# Altium schematic symbol library SparkFun-Boards.SCHLIB: 38 symbols
Pins are listed as number, name and electrical type; pins without a type are passive.

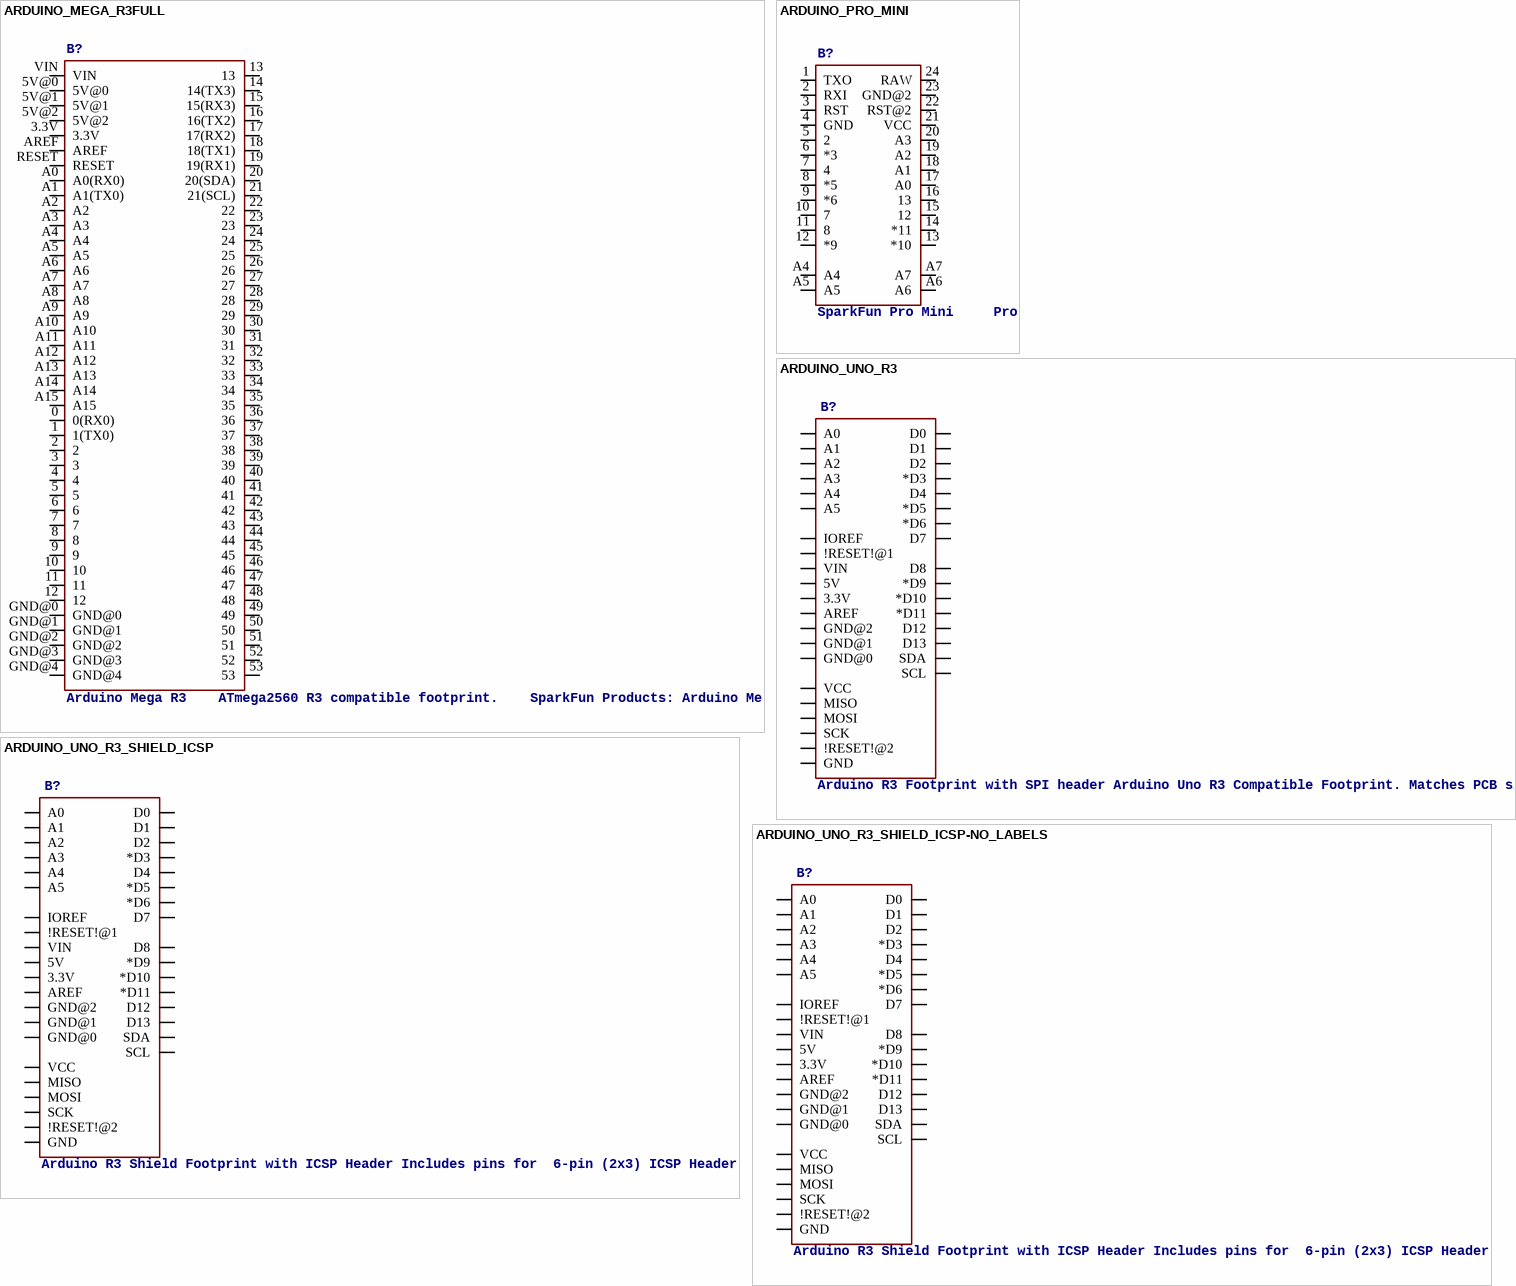
[diagram p0: symbols ARDUINO_MEGA_R3FULL to ARDUINO_UNO_R3_SHIELD_ICSP-NO_LABELS]

## ARDUINO_MEGA_R3FULL
designator B?, comment Arduino Mega R3    ATmega2560 R3 compatible footprint.    SparkFun Products: Arduino Mega 2560 R3
footprint ARDUINO_MEGA
pins: 0 0(RX0), 1 1(TX0), 2, 3, 3.3V, 4, 5, 5V@0, 5V@1, 5V@2, 6, 7, 8, 9, 10, 11, 12, 13, 14 14(TX3), 15 15(RX3), 16 16(TX2), 17 17(RX2), 18 18(TX1), 19 19(RX1), 20 20(SDA), 21 21(SCL), 22, 23, 24, 25, 26, 27, 28, 29, 30, 31, 32, 33, 34, 35, 36, 37, 38, 39, 40, 41, 42, 43, 44, 45, 46, 47, 48, 49, 50, 51, 52, 53, A0 A0(RX0), A1 A1(TX0), A2, A3, A4, A5, A6, A7, A8, A9, A10, A11, A12, A13, A14, A15, AREF, GND@0, GND@1, GND@2, GND@3, GND@4, RESET, VIN

## ARDUINO_PRO_MINI
designator B?, comment SparkFun Pro Mini     Pro Mini compatible footprint.    Dimensions: 0.7 x 1.3"  PCB Thickness: 0.8mm    SparkFun Products: 3.3V/8MHz  5V/16MHz
footprint ARDUINO_PRO_MINI
pins: 1 TXO, 2 RXI, 3 RST, 4 GND (power), 5 2, 6 *3, 7 4, 8 *5, 9 *6, 10 7, 11 8, 12 *9, 13 *10, 14 *11, 15 12, 16 13, 17 A0, 18 A1, 19 A2, 20 A3, 21 VCC (power), 22 RST@2, 23 GND@2 (power), 24 RAW (power), A4, A5, A6, A7

## ARDUINO_UNO_R3
designator B?, comment Arduino R3 Footprint with SPI header Arduino Uno R3 Compatible Footprint. Matches PCB size of the original board.    SparkFun Products:  SAMD21 Dev Breakout  RedBoard   R3 Stackable Headers
footprint ARDUINO_R3
pins: 3.3V, 5V, A0, A1, A2, A3, A4, A5, AREF, D0, D1, D2, D3 *D3, D4, D5 *D5, D6 *D6, D7, D8, D9 *D9, D10 *D10, D11 *D11, D12, D13, GND@1 GND, GND@2 GND@0, GND@3 GND@1, GND@4 GND@2, IOREF, MISO, MOSI, RESET@1 !RESET!@1, RESET@2 !RESET!@2, SCK, SCL, SDA, VCC, VIN

## ARDUINO_UNO_R3_SHIELD_ICSP
designator B?, comment Arduino R3 Shield Footprint with ICSP Header Includes pins for  6-pin (2x3) ICSP Header. Compatible with Leonardo boards that require SPI pin connections via this header.    SparkFun Products:  CryptoShield  microSD Shield R3 Stackable Headers Kit
footprint UNO_R3_SHIELD_ICSP
pins: 3.3V, 5V, 5V_ICSP VCC, A0, A1, A2, A3, A4, A5, AREF, D2, D3 *D3, D4, D5 *D5, D6 *D6, D7, D8, D9 *D9, D10 *D10, D11 *D11, D12, D13, GND@0, GND@1, GND@2, GND_ICSP GND, IOREF, MISO, MOSI, RES !RESET!@1, RST_ICSP !RESET!@2, RX D0, SCK, SCL, SDA, TX D1, VIN

## ARDUINO_UNO_R3_SHIELD_ICSP-NO_LABELS
designator B?, comment Arduino R3 Shield Footprint with ICSP Header Includes pins for  6-pin (2x3) ICSP Header. Compatible with Leonardo boards that require SPI pin connections via this header.    SparkFun Products:  CryptoShield  microSD Shield R3 Stackable Headers Kit
footprint UNO_R3_SHIELD_ICSP_NOLABELS
pins: 3.3V, 5V, 5V_ICSP VCC, A0, A1, A2, A3, A4, A5, AREF, D2, D3 *D3, D4, D5 *D5, D6 *D6, D7, D8, D9 *D9, D10 *D10, D11 *D11, D12, D13, GND@0, GND@1, GND@2, GND_ICSP GND, IOREF, MISO, MOSI, RES !RESET!@1, RST_ICSP !RESET!@2, RX D0, SCK, SCL, SDA, TX D1, VIN

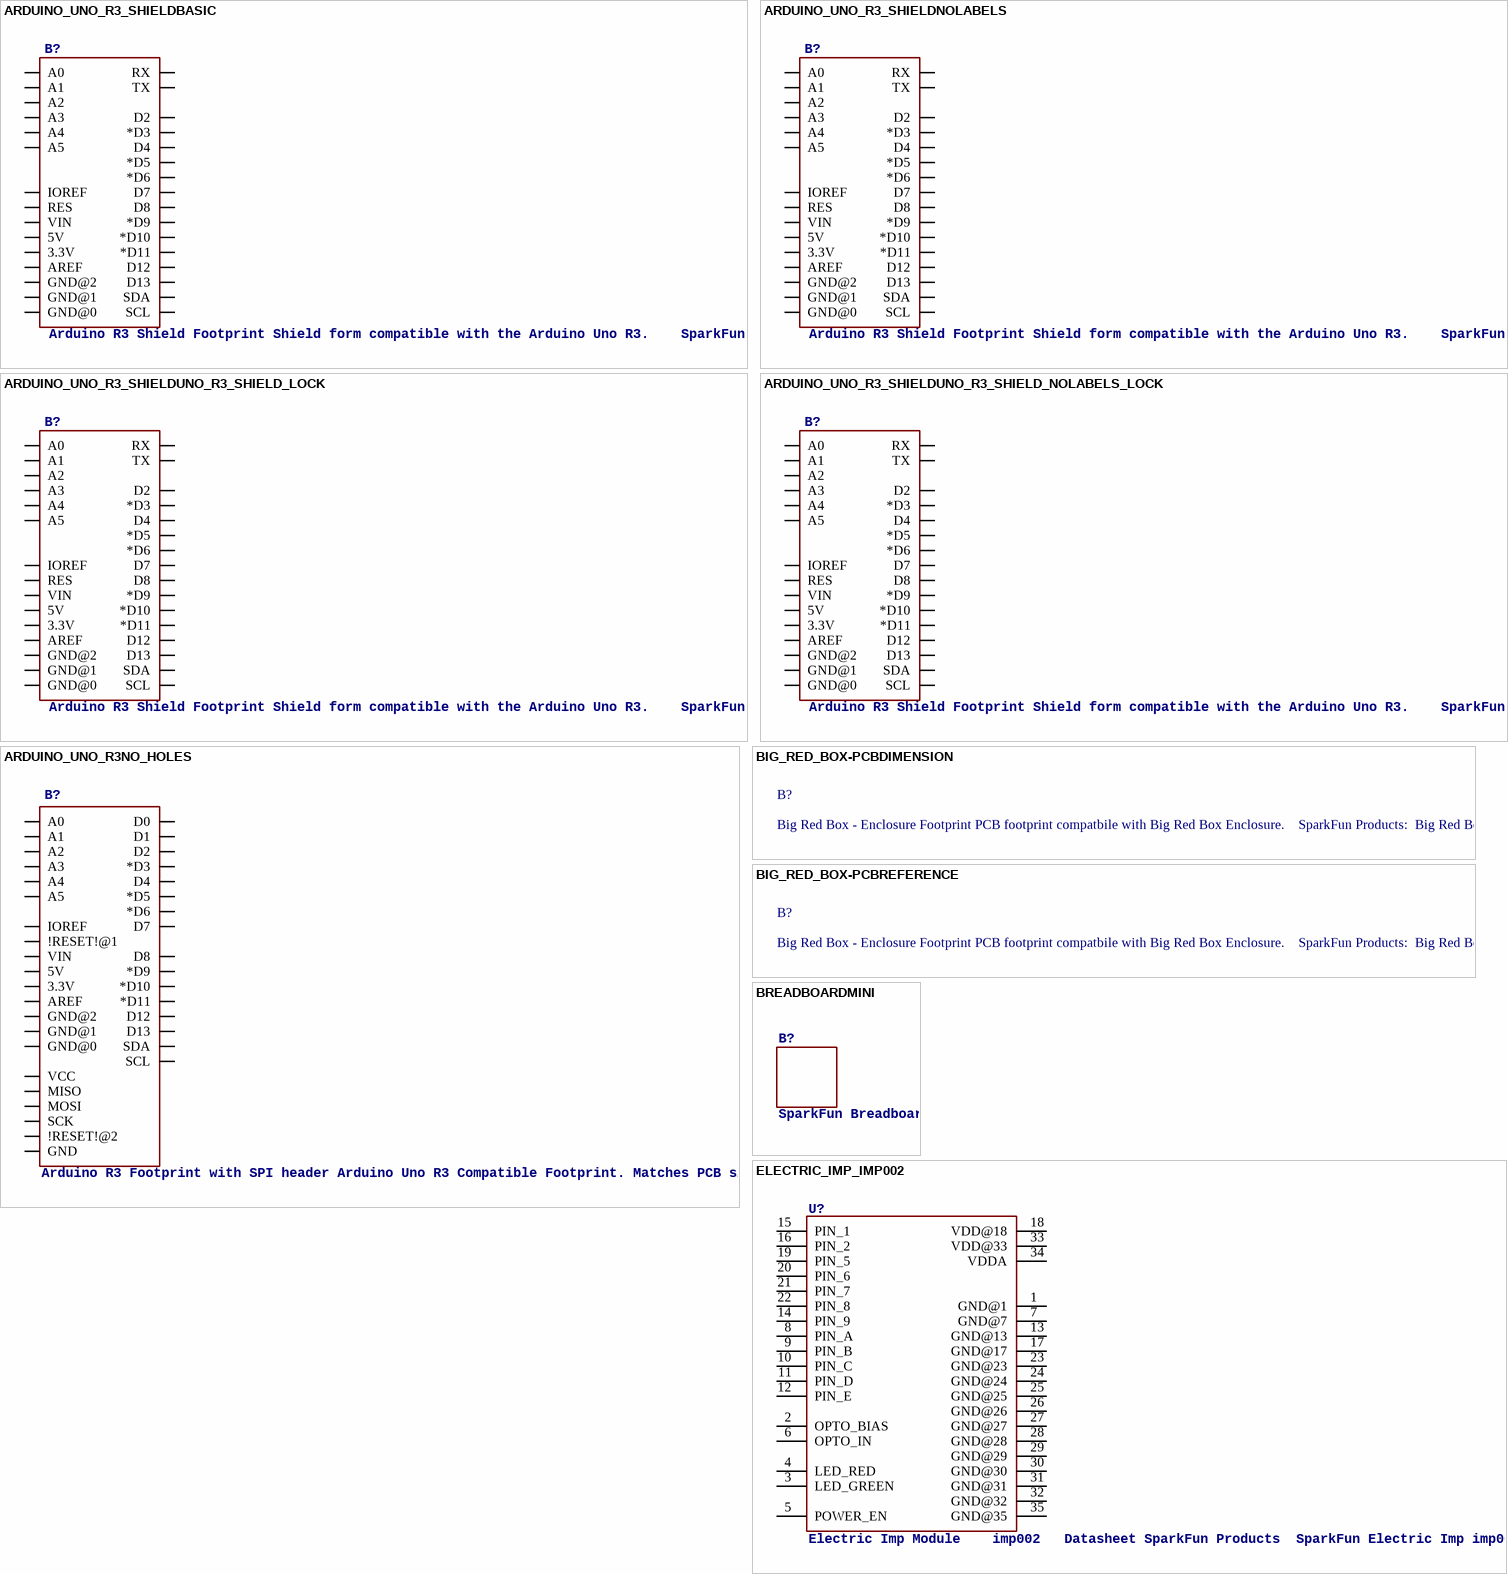
[diagram p1: symbols ARDUINO_UNO_R3_SHIELDBASIC to ELECTRIC_IMP_IMP002]

## ARDUINO_UNO_R3_SHIELDBASIC
designator B?, comment Arduino R3 Shield Footprint Shield form compatible with the Arduino Uno R3.    SparkFun Products:  MG2639 Cellular Shield  MIDI Shield R3 Stackable Headers Kit
footprint UNO_R3_SHIELD
pins: 3.3V, 5V, A0, A1, A2, A3, A4, A5, AREF, D2, D3 *D3, D4, D5 *D5, D6 *D6, D7, D8, D9 *D9, D10 *D10, D11 *D11, D12, D13, GND@0, GND@1, GND@2, IOREF, RES, RX, SCL, SDA, TX, VIN

## ARDUINO_UNO_R3_SHIELDNOLABELS
designator B?, comment Arduino R3 Shield Footprint Shield form compatible with the Arduino Uno R3.    SparkFun Products:  MG2639 Cellular Shield  MIDI Shield R3 Stackable Headers Kit
footprint UNO_R3_SHIELD_NOLABELS
pins: 3.3V, 5V, A0, A1, A2, A3, A4, A5, AREF, D2, D3 *D3, D4, D5 *D5, D6 *D6, D7, D8, D9 *D9, D10 *D10, D11 *D11, D12, D13, GND@0, GND@1, GND@2, IOREF, RES, RX, SCL, SDA, TX, VIN

## ARDUINO_UNO_R3_SHIELDUNO_R3_SHIELD_LOCK
designator B?, comment Arduino R3 Shield Footprint Shield form compatible with the Arduino Uno R3.    SparkFun Products:  MG2639 Cellular Shield  MIDI Shield R3 Stackable Headers Kit
footprint UNO_R3_SHIELD_LOCK
pins: 3.3V, 5V, A0, A1, A2, A3, A4, A5, AREF, D2, D3 *D3, D4, D5 *D5, D6 *D6, D7, D8, D9 *D9, D10 *D10, D11 *D11, D12, D13, GND@0, GND@1, GND@2, IOREF, RES, RX, SCL, SDA, TX, VIN

## ARDUINO_UNO_R3_SHIELDUNO_R3_SHIELD_NOLABELS_LOCK
designator B?, comment Arduino R3 Shield Footprint Shield form compatible with the Arduino Uno R3.    SparkFun Products:  MG2639 Cellular Shield  MIDI Shield R3 Stackable Headers Kit
footprint UNO_R3_SHIELD_NOLABELS_LOCK
pins: 3.3V, 5V, A0, A1, A2, A3, A4, A5, AREF, D2, D3 *D3, D4, D5 *D5, D6 *D6, D7, D8, D9 *D9, D10 *D10, D11 *D11, D12, D13, GND@0, GND@1, GND@2, IOREF, RES, RX, SCL, SDA, TX, VIN

## ARDUINO_UNO_R3NO_HOLES
designator B?, comment Arduino R3 Footprint with SPI header Arduino Uno R3 Compatible Footprint. Matches PCB size of the original board.    SparkFun Products:  SAMD21 Dev Breakout  RedBoard   R3 Stackable Headers
footprint ARDUINO_R3_NO_HOLES
pins: 3.3V, 5V, A0, A1, A2, A3, A4, A5, AREF, D0, D1, D2, D3 *D3, D4, D5 *D5, D6 *D6, D7, D8, D9 *D9, D10 *D10, D11 *D11, D12, D13, GND@1 GND, GND@2 GND@0, GND@3 GND@1, GND@4 GND@2, IOREF, MISO, MOSI, RESET@1 !RESET!@1, RESET@2 !RESET!@2, SCK, SCL, SDA, VCC, VIN

## BIG_RED_BOX-PCBDIMENSION
designator B?, comment Big Red Box - Enclosure Footprint PCB footprint compatbile with Big Red Box Enclosure.    SparkFun Products:  Big Red Box - Enclosure  Stepoko
footprint FLANGED_RED_ENCLOSURE-DIMENSION

## BIG_RED_BOX-PCBREFERENCE
designator B?, comment Big Red Box - Enclosure Footprint PCB footprint compatbile with Big Red Box Enclosure.    SparkFun Products:  Big Red Box - Enclosure  Stepoko
footprint FLANGED_RED_ENCLOSURE-OUTLINE

## BREADBOARDMINI
designator B?, comment SparkFun Breadboard Mini    This is the mechnical outline for the very small self adhesive breadboard from SparkFun Electronics and our prototyping breadboard of the same size. Good for very small proto areas.   SparkFun Products: White  Green  Black
PROD_ID: COMP-12034
footprint BREADBOARD-MINI

## ELECTRIC_IMP_IMP002
designator U?, comment Electric Imp Module    imp002   Datasheet SparkFun Products  SparkFun Electric Imp imp002 Breakout (BOB-12958)
PROD_ID: IC-12130
footprint ELECTRIC_IMP_IMP002
pins: 1 GND@1, 2 OPTO_BIAS, 3 LED_GREEN, 4 LED_RED, 5 POWER_EN, 6 OPTO_IN, 7 GND@7, 8 PIN_A, 9 PIN_B, 10 PIN_C, 11 PIN_D, 12 PIN_E, 13 GND@13, 14 PIN_9, 15 PIN_1, 16 PIN_2, 17 GND@17, 18 VDD@18, 19 PIN_5, 20 PIN_6, 21 PIN_7, 22 PIN_8, 23 GND@23, 24 GND@24, 25 GND@25, 26 GND@26, 27 GND@27, 28 GND@28, 29 GND@29, 30 GND@30, 31 GND@31, 32 GND@32, 33 VDD@33, 34 VDDA, 35 GND@35

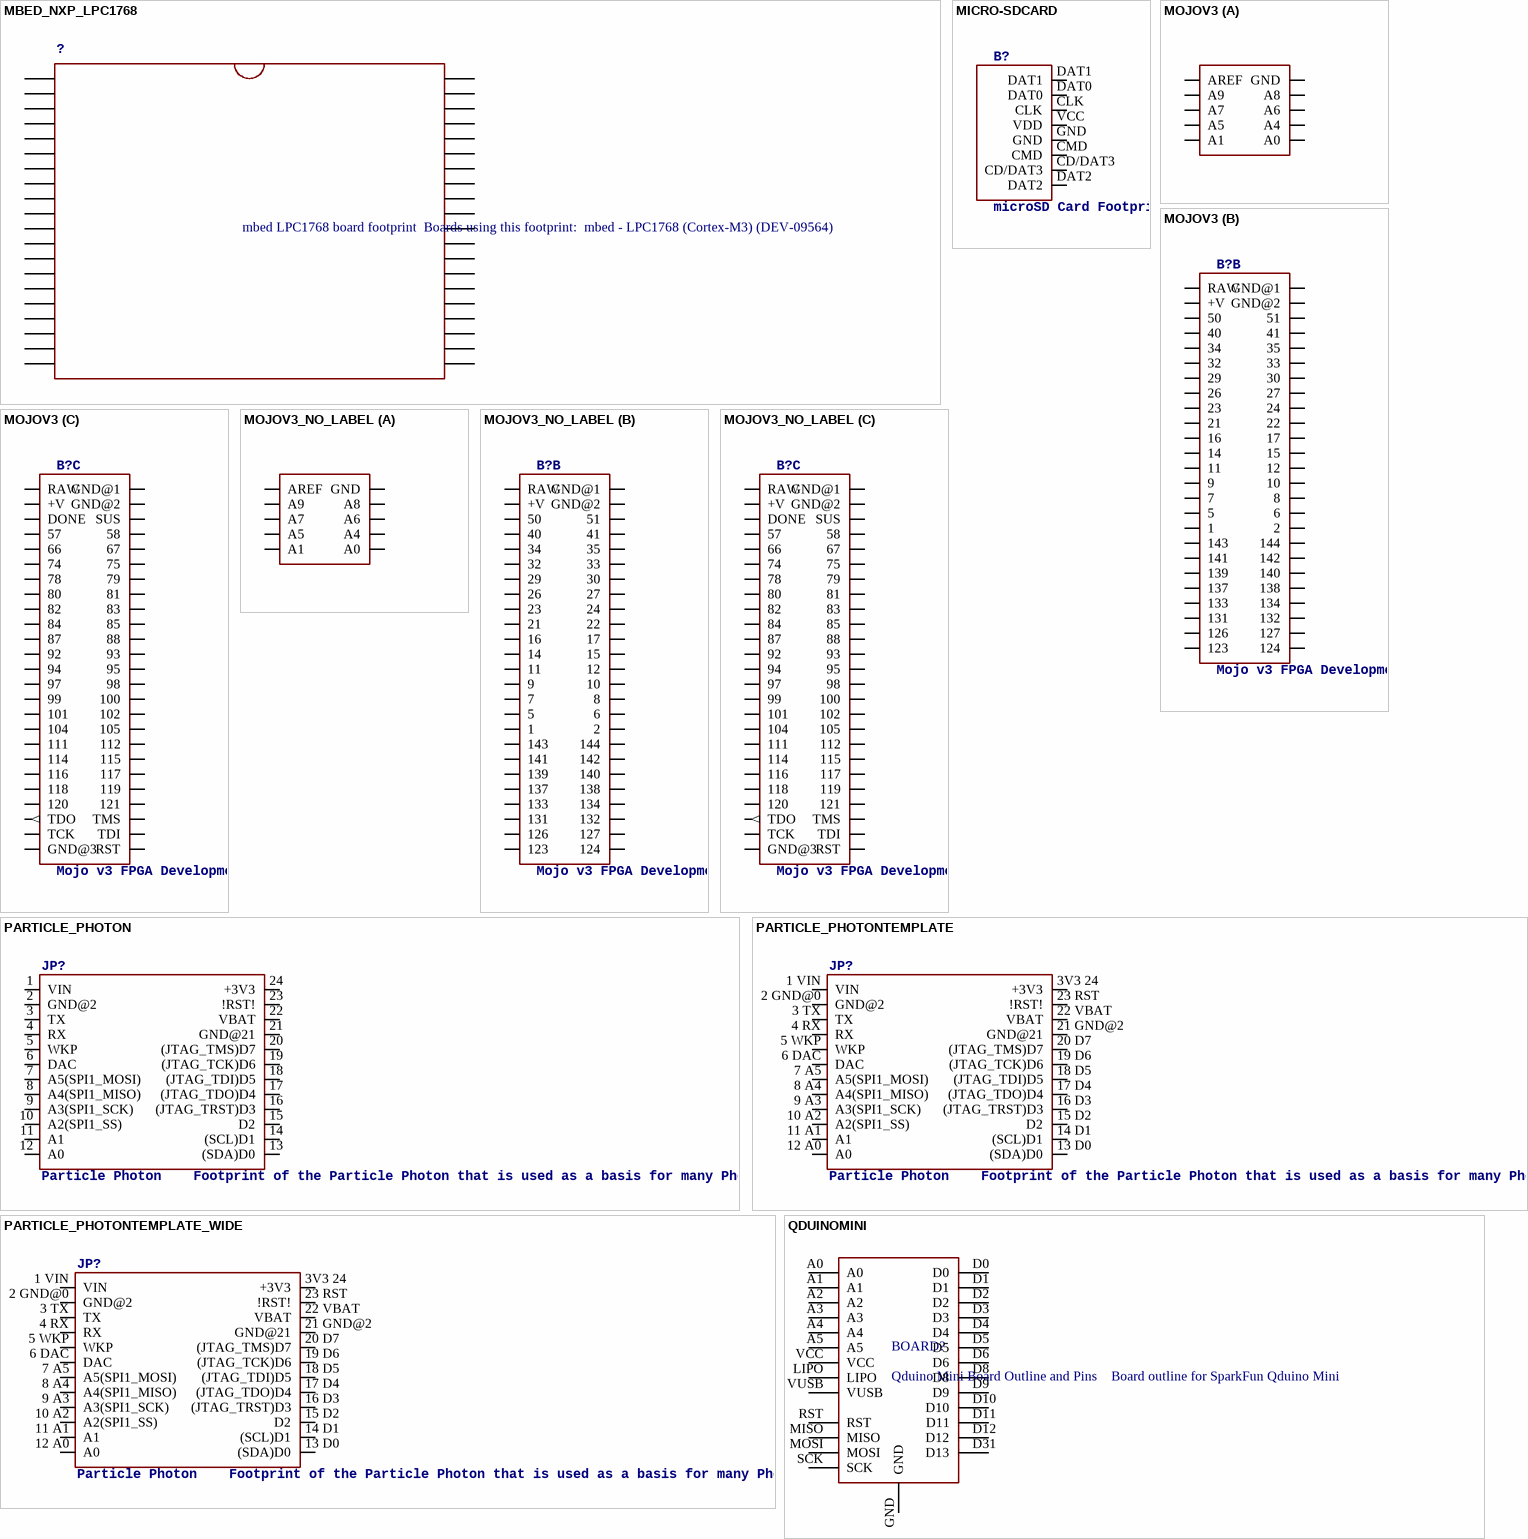
[diagram p2: symbols MBED_NXP_LPC1768 to QDUINOMINI]

## MBED_NXP_LPC1768
designator ?, comment mbed LPC1768 board footprint  Boards using this footprint:  mbed - LPC1768 (Cortex-M3) (DEV-09564)
PROD_ID: COMP-12167
footprint DIL40_0.9
pins: 1 P$1, 2 P$2, 3 P$3, 4 P$4, 5 P$5, 6 P$6, 7 P$7, 8 P$8, 9 P$9, 10 P$10, 11 P$11, 12 P$12, 13 P$13, 14 P$14, 15 P$15, 16 P$16, 17 P$17, 18 P$18, 19 P$19, 20 P$20, 21 P$21, 22 P$22, 23 P$23, 24 P$24, 25 P$25, 26 P$26, 27 P$27, 28 P$28, 29 P$29, 30 P$30, 31 P$31, 32 P$32, 33 P$33, 34 P$34, 35 P$35, 36 P$36, 37 P$37, 38 P$38, 39 P$39, 40 P$40

## MICRO-SDCARD
designator B?, comment microSD Card Footprint     This is the mechnical footprint with connections for soldering a microSD card - NOT for a socket for the card.   SparkFun Products:
footprint MICRO-SDCARD
pins: CD/DAT3, CLK, CMD, DAT0, DAT1, DAT2, GND (power), VCC VDD (power)

## MOJOV3
designator B?, comment Mojo v3 FPGA Development Board    Mechanical footprint with connectors for Mojo FPGA dev board.   SparkFun Products:
footprint MOJO_V3
part A pins: A0, A1, A4, A5, A6, A7, A8, A9, AREF, GND@5 GND (oe)
part B pins: 1, 2, 5, 6, 7, 8, 9, 10, 11, 12, 14, 15, 16, 17, 21, 22, 23, 24, 26, 27, 29, 30, 32, 33, 34, 35, 40, 41, 50, 51, 123, 124, 126, 127, 131, 132, 133, 134, 137, 138, 139, 140, 141, 142, 143, 144, GND@1 (oe), GND@2 (oe), RAW@1 RAW (oe), V@1 +V (oe)
part C pins: 57, 58, 66, 67, 74, 75, 78, 79, 80, 81, 82, 83, 84, 85, 87, 88, 92, 93, 94, 95, 97, 98, 99, 100, 101, 102, 104, 105, 111, 112, 114, 115, 116, 117, 118, 119, 120, 121, DONE, GND@3 GND@1 (oe), GND@4 GND@2 (oe), GND@6 GND@3 (oe), RAW@2 RAW (oe), RST, SUS, TCK, TDI, TDO (out), TMS, V@2 +V (oe)

## MOJOV3_NO_LABEL
designator B?, comment Mojo v3 FPGA Development Board    Mechanical footprint with connectors for Mojo FPGA dev board.   SparkFun Products:
footprint MOJO_V3_NO_LABEL
part A pins: A0, A1, A4, A5, A6, A7, A8, A9, AREF, GND@5 GND (oe)
part B pins: 1, 2, 5, 6, 7, 8, 9, 10, 11, 12, 14, 15, 16, 17, 21, 22, 23, 24, 26, 27, 29, 30, 32, 33, 34, 35, 40, 41, 50, 51, 123, 124, 126, 127, 131, 132, 133, 134, 137, 138, 139, 140, 141, 142, 143, 144, GND@1 (oe), GND@2 (oe), RAW@1 RAW (oe), V@1 +V (oe)
part C pins: 57, 58, 66, 67, 74, 75, 78, 79, 80, 81, 82, 83, 84, 85, 87, 88, 92, 93, 94, 95, 97, 98, 99, 100, 101, 102, 104, 105, 111, 112, 114, 115, 116, 117, 118, 119, 120, 121, DONE, GND@3 GND@1 (oe), GND@4 GND@2 (oe), GND@6 GND@3 (oe), RAW@2 RAW (oe), RST, SUS, TCK, TDI, TDO (out), TMS, V@2 +V (oe)

## PARTICLE_PHOTON
designator JP?, comment Particle Photon    Footprint of the Particle Photon that is used as a basis for many Photon shields.    SparkFun Products:  Particle Photon  SparkFun Photon ProtoShield
footprint PARTICLE_PHOTON
pins: 1 VIN (power), 2 GND@2 (power), 3 TX, 4 RX, 5 WKP, 6 DAC, 7 A5(SPI1_MOSI), 8 A4(SPI1_MISO), 9 A3(SPI1_SCK), 10 A2(SPI1_SS), 11 A1, 12 A0, 13 (SDA)D0, 14 (SCL)D1, 15 D2, 16 (JTAG_TRST)D3, 17 (JTAG_TDO)D4, 18 (JTAG_TDI)D5, 19 (JTAG_TCK)D6, 20 (JTAG_TMS)D7, 21 GND@21 (power), 22 VBAT (power), 23 !RST!, 24 +3V3 (power)

## PARTICLE_PHOTONTEMPLATE
designator JP?, comment Particle Photon    Footprint of the Particle Photon that is used as a basis for many Photon shields.    SparkFun Products:  Particle Photon  SparkFun Photon ProtoShield
footprint PARTICLE_PHOTON_TEMPLATE
pins: 1 VIN VIN (power), 2 GND@0 GND@2 (power), 3 TX TX, 3V3 24 +3V3 (power), 4 RX RX, 5 WKP WKP, 6 DAC DAC, 7 A5 A5(SPI1_MOSI), 8 A4 A4(SPI1_MISO), 9 A3 A3(SPI1_SCK), 10 A2 A2(SPI1_SS), 11 A1 A1, 12 A0 A0, 13 D0 (SDA)D0, 14 D1 (SCL)D1, 15 D2 D2, 16 D3 (JTAG_TRST)D3, 17 D4 (JTAG_TDO)D4, 18 D5 (JTAG_TDI)D5, 19 D6 (JTAG_TCK)D6, 20 D7 (JTAG_TMS)D7, 21 GND@2 GND@21 (power), 22 VBAT VBAT (power), 23 RST !RST!

## PARTICLE_PHOTONTEMPLATE_WIDE
designator JP?, comment Particle Photon    Footprint of the Particle Photon that is used as a basis for many Photon shields.    SparkFun Products:  Particle Photon  SparkFun Photon ProtoShield
footprint PARTICLE_PHOTON_TEMPLATE_WIDE
pins: 1 VIN VIN (power), 2 GND@0 GND@2 (power), 3 TX TX, 3V3 24 +3V3 (power), 4 RX RX, 5 WKP WKP, 6 DAC DAC, 7 A5 A5(SPI1_MOSI), 8 A4 A4(SPI1_MISO), 9 A3 A3(SPI1_SCK), 10 A2 A2(SPI1_SS), 11 A1 A1, 12 A0 A0, 13 D0 (SDA)D0, 14 D1 (SCL)D1, 15 D2 D2, 16 D3 (JTAG_TRST)D3, 17 D4 (JTAG_TDO)D4, 18 D5 (JTAG_TDI)D5, 19 D6 (JTAG_TCK)D6, 20 D7 (JTAG_TMS)D7, 21 GND@2 GND@21 (power), 22 VBAT VBAT (power), 23 RST !RST!

## QDUINOMINI
designator BOARD?, comment Qduino Mini Board Outline and Pins    Board outline for SparkFun Qduino Mini
footprint QDUINO_MINI_V15
pins: A0, A1, A2, A3, A4, A5, D0, D1, D2, D3, D4, D5, D6, D8, D9, D10, D11, D12, D31 D13, GND, LIPO, MISO, MOSI, RST, SCK, VCC, VUSB

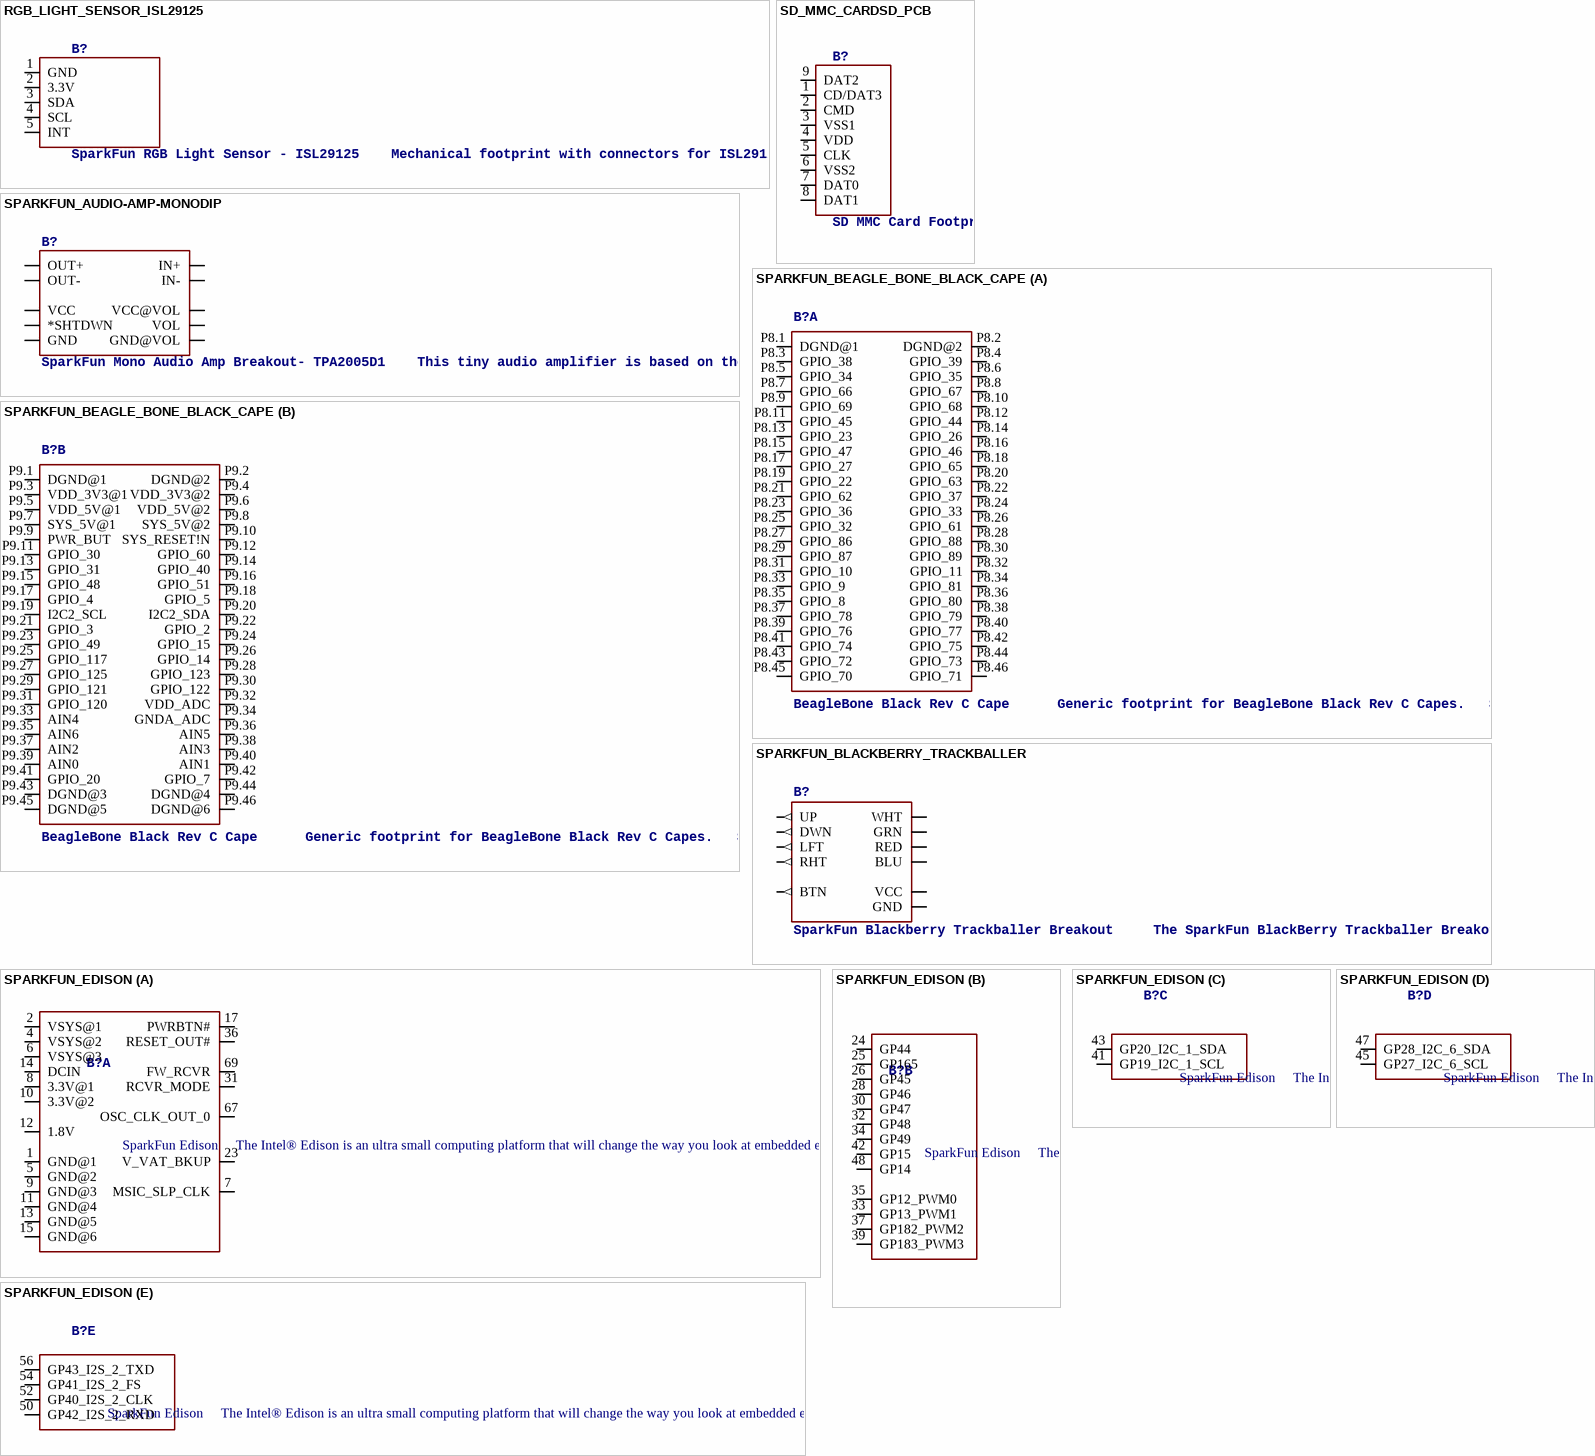
[diagram p3: symbols RGB_LIGHT_SENSOR_ISL29125 to SPARKFUN_EDISON]

## RGB_LIGHT_SENSOR_ISL29125
designator B?, comment SparkFun RGB Light Sensor - ISL29125    Mechanical footprint with connectors for ISL29125 RGB Light Sensor Breakout.   SparkFun Products:
footprint ISL29125
pins: 1 GND (power), 2 3.3V (power), 3 SDA, 4 SCL, 5 INT

## SD_MMC_CARDSD_PCB
designator B?, comment SD MMC Card Footprint    Mechanical footprint with connectors of an SD/MMC card- NOT a socket!   SparkFun Products:
footprint SD-MMC-CARD
pins: 1 CD/DAT3, 2 CMD, 3 VSS1, 4 VDD, 5 CLK, 6 VSS2, 7 DAT0, 8 DAT1, 9 DAT2

## SPARKFUN_AUDIO-AMP-MONODIP
designator B?, comment SparkFun Mono Audio Amp Breakout- TPA2005D1    This tiny audio amplifier is based on the Texas Instruments TPA2005D1. Its efficient class-D operation means low heat and long battery life.  It can drive an 8-Ohm speaker at up to 1.4 Watts   SparkFun Products: Mono Audio Amp Breakout
footprint AUDIO-AMP-MONO
pins: IN+, IN-, OUT+, OUT-, PWR+ VCC, PWR- GND, S *SHTDWN, VOL, VOL+ VCC@VOL, VOL- GND@VOL

## SPARKFUN_BEAGLE_BONE_BLACK_CAPE
designator B?, comment BeagleBone Black Rev C Cape      Generic footprint for BeagleBone Black Rev C Capes.   SparkFun Products: SparkFun BeagleBone Black Proto Cape  SparkFun CryptoCape
footprint BEAGLE_BONE_BLACK_CAPE
part A pins: P8.1 DGND@1, P8.2 DGND@2, P8.3 GPIO_38, P8.4 GPIO_39, P8.5 GPIO_34, P8.6 GPIO_35, P8.7 GPIO_66, P8.8 GPIO_67, P8.9 GPIO_69, P8.10 GPIO_68, P8.11 GPIO_45, P8.12 GPIO_44, P8.13 GPIO_23, P8.14 GPIO_26, P8.15 GPIO_47, P8.16 GPIO_46, P8.17 GPIO_27, P8.18 GPIO_65, P8.19 GPIO_22, P8.20 GPIO_63, P8.21 GPIO_62, P8.22 GPIO_37, P8.23 GPIO_36, P8.24 GPIO_33, P8.25 GPIO_32, P8.26 GPIO_61, P8.27 GPIO_86, P8.28 GPIO_88, P8.29 GPIO_87, P8.30 GPIO_89, P8.31 GPIO_10, P8.32 GPIO_11, P8.33 GPIO_9, P8.34 GPIO_81, P8.35 GPIO_8, P8.36 GPIO_80, P8.37 GPIO_78, P8.38 GPIO_79, P8.39 GPIO_76, P8.40 GPIO_77, P8.41 GPIO_74, P8.42 GPIO_75, P8.43 GPIO_72, P8.44 GPIO_73, P8.45 GPIO_70, P8.46 GPIO_71
part B pins: P9.1 DGND@1, P9.2 DGND@2, P9.3 VDD_3V3@1, P9.4 VDD_3V3@2, P9.5 VDD_5V@1, P9.6 VDD_5V@2, P9.7 SYS_5V@1, P9.8 SYS_5V@2, P9.9 PWR_BUT, P9.10 SYS_RESET!N, P9.11 GPIO_30, P9.12 GPIO_60, P9.13 GPIO_31, P9.14 GPIO_40, P9.15 GPIO_48, P9.16 GPIO_51, P9.17 GPIO_4, P9.18 GPIO_5, P9.19 I2C2_SCL, P9.20 I2C2_SDA, P9.21 GPIO_3, P9.22 GPIO_2, P9.23 GPIO_49, P9.24 GPIO_15, P9.25 GPIO_117, P9.26 GPIO_14, P9.27 GPIO_125, P9.28 GPIO_123, P9.29 GPIO_121, P9.30 GPIO_122, P9.31 GPIO_120, P9.32 VDD_ADC, P9.33 AIN4, P9.34 GNDA_ADC, P9.35 AIN6, P9.36 AIN5, P9.37 AIN2, P9.38 AIN3, P9.39 AIN0, P9.40 AIN1, P9.41 GPIO_20, P9.42 GPIO_7, P9.43 DGND@3, P9.44 DGND@4, P9.45 DGND@5, P9.46 DGND@6

## SPARKFUN_BLACKBERRY_TRACKBALLER
designator B?, comment SparkFun Blackberry Trackballer Breakout     The SparkFun BlackBerry Trackballer Breakout gives you easy access to a trackball which measures up, down, left, and right movements, clicks on the board, as well as adding a bit of flair to your project with four built-in LEDs.   SparkFun Products: SparkFun Blackberry Trackballer Breakout
PROD_ID: PCB-12486
footprint SPARKFUN_BLACKBERRY_TRACKBALLER
pins: ?1 UP (out), ?2 DWN (out), ?3 LFT (out), ?4 RHT (out), ?5 WHT, ?6 RED, ?7 BLU, ?8 GRN, ?9 BTN (out), ?10 VCC (power), ?11 GND (power)

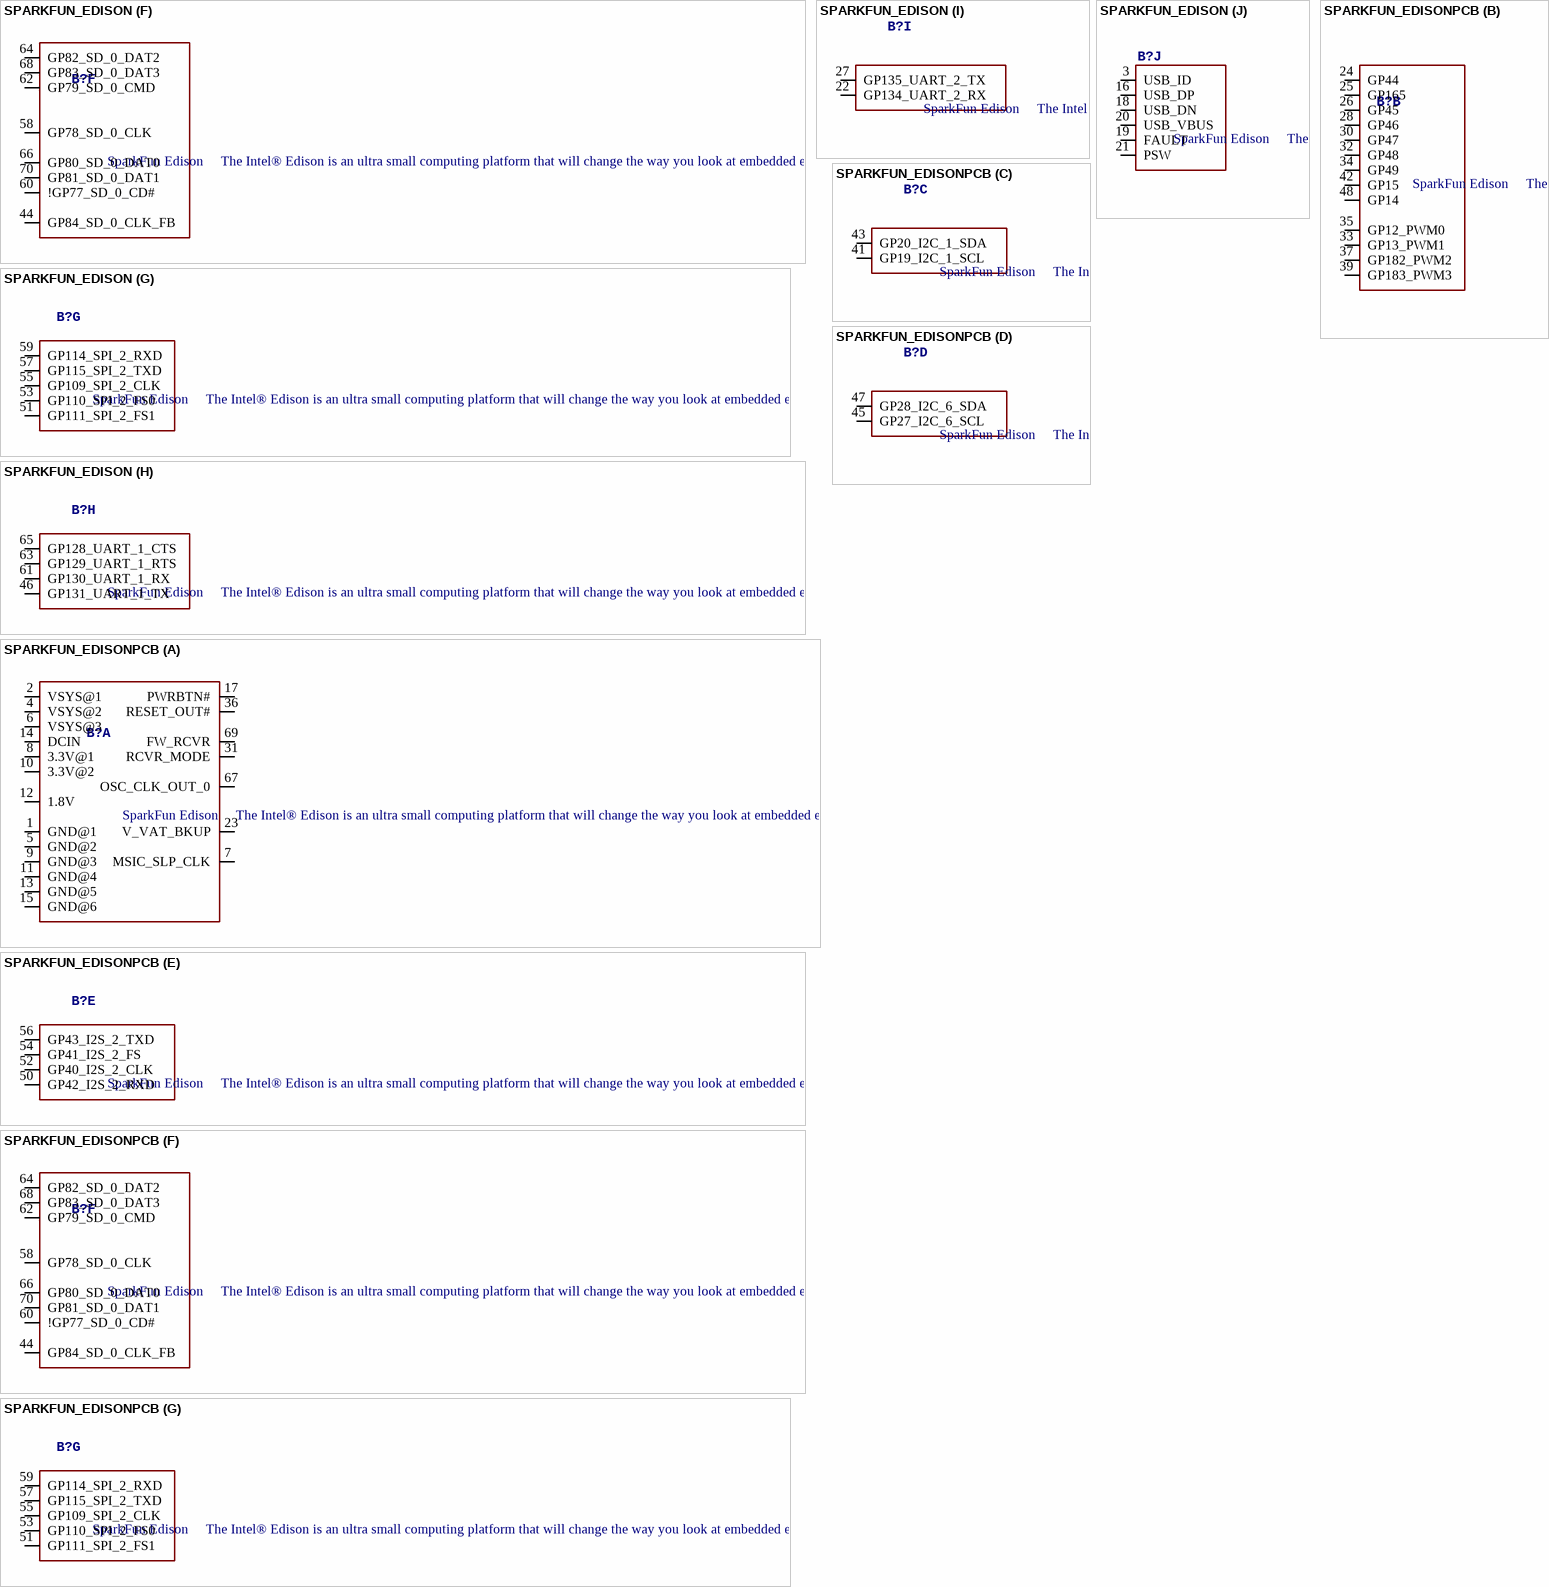
[diagram p4: symbols SPARKFUN_EDISON to SPARKFUN_EDISONPCB]

## SPARKFUN_EDISON
designator B?, comment SparkFun Edison     The Intel® Edison is an ultra small computing platform that will change the way you look at embedded electronics. Each Edison packs a huge amount of tech goodies into a tiny package while still providing the same robust strength of your go-to single board computer. Powered by the Intel® Atom™ SoC dual-core CPU and including an integrated WiFi, Bluetooth LE, and a 70-pin connector to attach a veritable slew of shield-like “Blocks” which can be stacked on top of each other.   This device includes footprints for the Edison module itself, as well as the basic board outline used for our Edison blocks.   SparkFun Products: Intel Edison  SparkFun Console Block  SparkFun GPIO Block  SparkFun Battery Block  SparkFun Base Block  SparkFun 9DOF Block  SparkFun OLED Block  SparkFun Dual H-Bridge Block  SparkFun microSD Block  SparkFun ADC Block  SparkFun I2C Block  SparkFun Arduino Block  SparkFun Power Block  SparkFun PWM Block  SparkFun Raspberry Pi Block  SparkFun UART Block
footprint SPARKFUN_EDISON_DAUGHTER
part A pins: 1 GND@1 (power), 2 VSYS@1 (power), 4 VSYS@2 (power), 5 GND@2 (power), 6 VSYS@3 (power), 7 MSIC_SLP_CLK, 8 3.3V@1 (power), 9 GND@3 (power), 10 3.3V@2 (power), 11 GND@4 (power), 12 1.8V (power), 13 GND@5 (power), 14 DCIN (power), 15 GND@6 (power), 17 PWRBTN#, 23 V_VAT_BKUP (power), 31 RCVR_MODE, 36 RESET_OUT#, 67 OSC_CLK_OUT_0, 69 FW_RCVR
part B pins: 24 GP44, 25 GP165, 26 GP45, 28 GP46, 30 GP47, 32 GP48, 33 GP13_PWM1, 34 GP49, 35 GP12_PWM0, 37 GP182_PWM2, 39 GP183_PWM3, 42 GP15, 48 GP14
part C pins: 41 GP19_I2C_1_SCL, 43 GP20_I2C_1_SDA
part D pins: 45 GP27_I2C_6_SCL, 47 GP28_I2C_6_SDA
part E pins: 50 GP42_I2S_2_RXD, 52 GP40_I2S_2_CLK, 54 GP41_I2S_2_FS, 56 GP43_I2S_2_TXD
part F pins: 44 GP84_SD_0_CLK_FB, 58 GP78_SD_0_CLK, 60 !GP77_SD_0_CD#, 62 GP79_SD_0_CMD, 64 GP82_SD_0_DAT2, 66 GP80_SD_0_DAT0, 68 GP83_SD_0_DAT3, 70 GP81_SD_0_DAT1
part G pins: 51 GP111_SPI_2_FS1, 53 GP110_SPI_2_FS0, 55 GP109_SPI_2_CLK, 57 GP115_SPI_2_TXD, 59 GP114_SPI_2_RXD
part H pins: 46 GP131_UART_1_TX, 61 GP130_UART_1_RX, 63 GP129_UART_1_RTS, 65 GP128_UART_1_CTS
part I pins: 22 GP134_UART_2_RX, 27 GP135_UART_2_TX
part J pins: 3 USB_ID, 16 USB_DP, 18 USB_DN, 19 FAULT, 20 USB_VBUS, 21 PSW

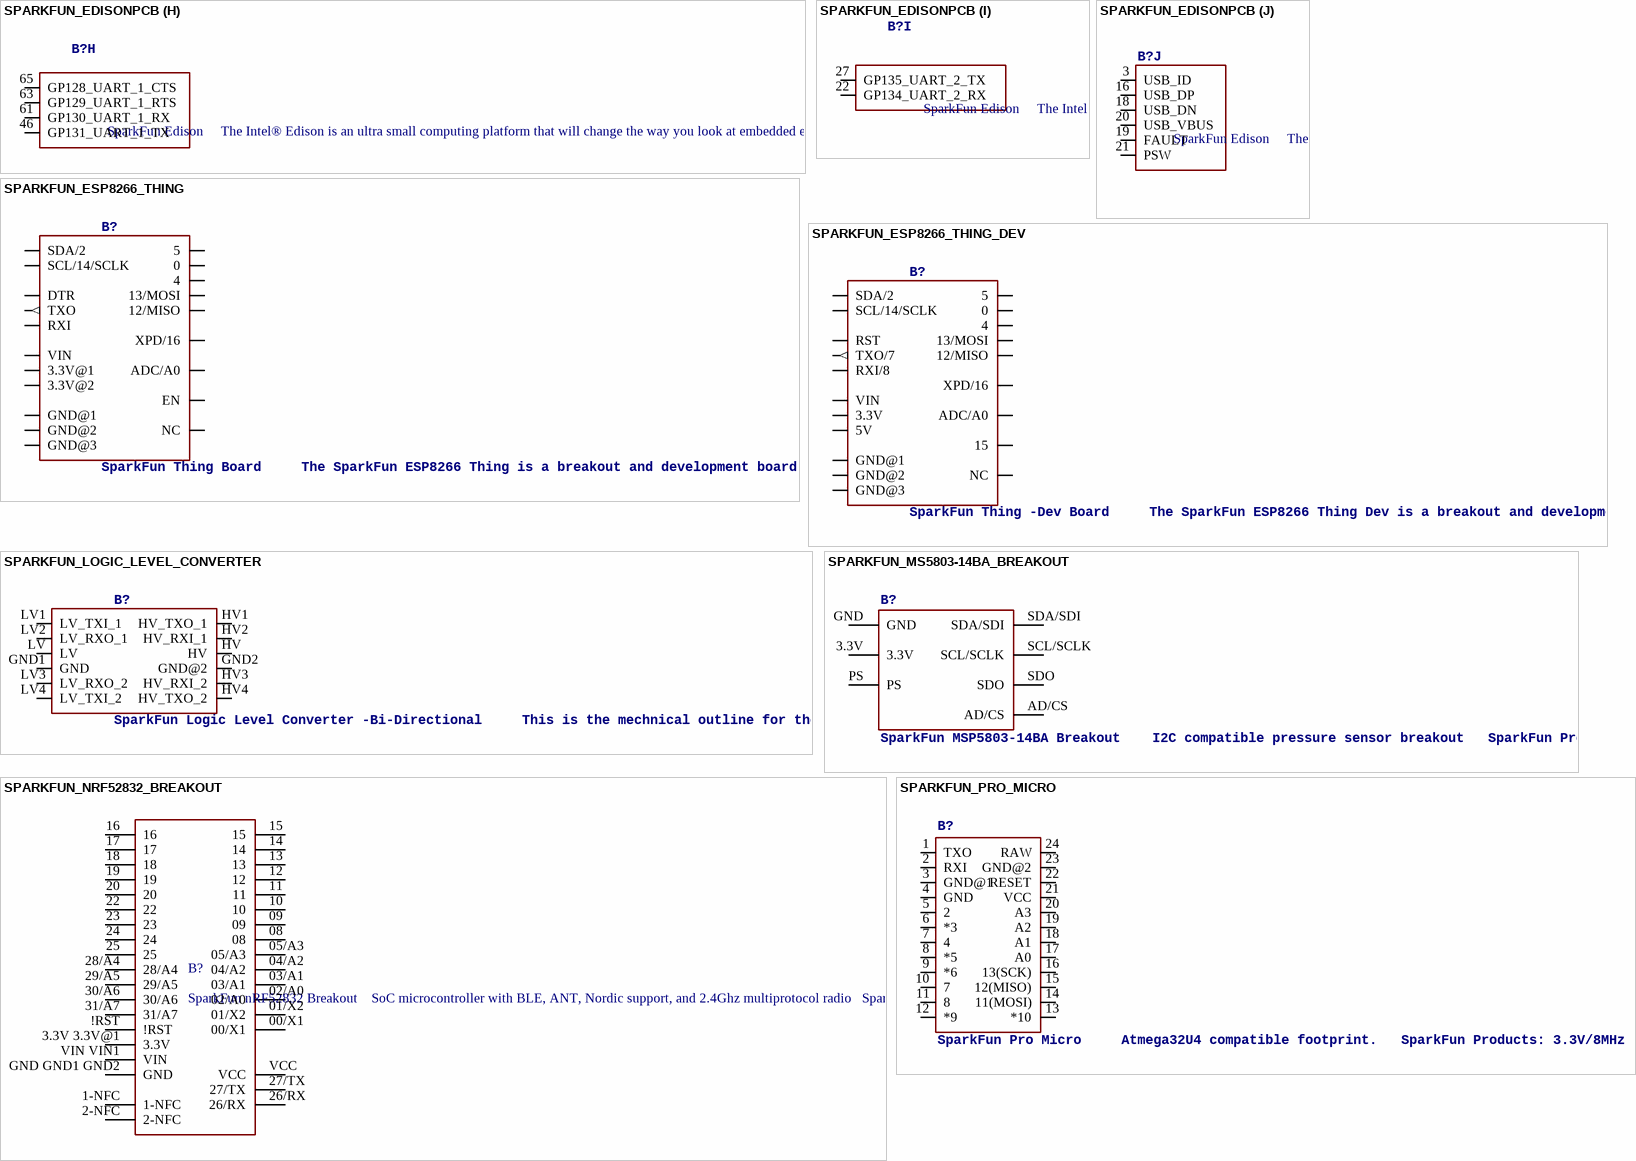
[diagram p5: symbols SPARKFUN_EDISONPCB to SPARKFUN_PRO_MICRO]

## SPARKFUN_EDISONPCB
designator B?, comment SparkFun Edison     The Intel® Edison is an ultra small computing platform that will change the way you look at embedded electronics. Each Edison packs a huge amount of tech goodies into a tiny package while still providing the same robust strength of your go-to single board computer. Powered by the Intel® Atom™ SoC dual-core CPU and including an integrated WiFi, Bluetooth LE, and a 70-pin connector to attach a veritable slew of shield-like “Blocks” which can be stacked on top of each other.   This device includes footprints for the Edison module itself, as well as the basic board outline used for our Edison blocks.   SparkFun Products: Intel Edison  SparkFun Console Block  SparkFun GPIO Block  SparkFun Battery Block  SparkFun Base Block  SparkFun 9DOF Block  SparkFun OLED Block  SparkFun Dual H-Bridge Block  SparkFun microSD Block  SparkFun ADC Block  SparkFun I2C Block  SparkFun Arduino Block  SparkFun Power Block  SparkFun PWM Block  SparkFun Raspberry Pi Block  SparkFun UART Block
footprint SPARKFUN_EDISON_PCB
part A pins: 1 GND@1 (power), 2 VSYS@1 (power), 4 VSYS@2 (power), 5 GND@2 (power), 6 VSYS@3 (power), 7 MSIC_SLP_CLK, 8 3.3V@1 (power), 9 GND@3 (power), 10 3.3V@2 (power), 11 GND@4 (power), 12 1.8V (power), 13 GND@5 (power), 14 DCIN (power), 15 GND@6 (power), 17 PWRBTN#, 23 V_VAT_BKUP (power), 31 RCVR_MODE, 36 RESET_OUT#, 67 OSC_CLK_OUT_0, 69 FW_RCVR
part B pins: 24 GP44, 25 GP165, 26 GP45, 28 GP46, 30 GP47, 32 GP48, 33 GP13_PWM1, 34 GP49, 35 GP12_PWM0, 37 GP182_PWM2, 39 GP183_PWM3, 42 GP15, 48 GP14
part C pins: 41 GP19_I2C_1_SCL, 43 GP20_I2C_1_SDA
part D pins: 45 GP27_I2C_6_SCL, 47 GP28_I2C_6_SDA
part E pins: 50 GP42_I2S_2_RXD, 52 GP40_I2S_2_CLK, 54 GP41_I2S_2_FS, 56 GP43_I2S_2_TXD
part F pins: 44 GP84_SD_0_CLK_FB, 58 GP78_SD_0_CLK, 60 !GP77_SD_0_CD#, 62 GP79_SD_0_CMD, 64 GP82_SD_0_DAT2, 66 GP80_SD_0_DAT0, 68 GP83_SD_0_DAT3, 70 GP81_SD_0_DAT1
part G pins: 51 GP111_SPI_2_FS1, 53 GP110_SPI_2_FS0, 55 GP109_SPI_2_CLK, 57 GP115_SPI_2_TXD, 59 GP114_SPI_2_RXD
part H pins: 46 GP131_UART_1_TX, 61 GP130_UART_1_RX, 63 GP129_UART_1_RTS, 65 GP128_UART_1_CTS
part I pins: 22 GP134_UART_2_RX, 27 GP135_UART_2_TX
part J pins: 3 USB_ID, 16 USB_DP, 18 USB_DN, 19 FAULT, 20 USB_VBUS, 21 PSW

## SPARKFUN_ESP8266_THING
designator B?, comment SparkFun Thing Board     The SparkFun ESP8266 Thing is a breakout and development board for the ESP8266 WiFi SoC   SparkFun Products:  SparkFun ESP8266 Thing
SF_ID: WRL-13231
footprint SPARKFUN_ESP8266_THING
pins: 0, 3.3V@1 (power), 3.3V@2 (power), 4, 5, 12 12/MISO, 13 13/MOSI, ADC ADC/A0, DTR, EN, GND@1 (power), GND@2 (power), GND@3 (power), NC, RXI, SCL SCL/14/SCLK, SDA SDA/2, TXO (out), VIN (power), XPD XPD/16

## SPARKFUN_ESP8266_THING_DEV
designator B?, comment SparkFun Thing -Dev Board     The SparkFun ESP8266 Thing Dev is a breakout and development board for the ESP8266 WiFi SoC, with an integrated FTDI USB-to-Serial chip.   SparkFun Products:  SparkFun ESP8266 Thing-Dev Board
SF_ID: WRL-13711
footprint SPARKFUN_ESP8266_THING_DEV
pins: 0, 2 SDA/2, 3.3V (power), 4, 5, 5V (power), 12 12/MISO, 13 13/MOSI, 14 SCL/14/SCLK, 15, 16 XPD/16, ADC ADC/A0, GND@1 (power), GND@2 (power), GND@3 (power), NC, RST, RX RXI/8, TX TXO/7 (out), VIN (power)

## SPARKFUN_LOGIC_LEVEL_CONVERTER
designator B?, comment SparkFun Logic Level Converter -Bi-Directional     This is the mechnical outline for the 3.3V - 5V bi directional logic level converter.    SparkFun Products: SparkFun Logic Level Converter - Bi-Directional
footprint SPARKFUN_LOGIC_LEVEL_CONVERTER
pins: GND1 GND (power), GND2 GND@2 (power), HV (power), HV1 HV_TXO_1, HV2 HV_RXI_1, HV3 HV_RXI_2, HV4 HV_TXO_2, LV (power), LV1 LV_TXI_1, LV2 LV_RXO_1, LV3 LV_RXO_2, LV4 LV_TXI_2

## SPARKFUN_MS5803-14BA_BREAKOUT
designator B?, comment SparkFun MSP5803-14BA Breakout    I2C compatible pressure sensor breakout   SparkFun Products: SparkFun MSP5803-14BA Breakout
SF_ID: SEN-12909
footprint SPARKFUN_MS5803-14BA_BREAKOUT
pins: 3.3V, AD/CS, GND, PS, SCL/SCLK, SDA/SDI, SDO

## SPARKFUN_NRF52832_BREAKOUT
designator B?, comment SparkFun nRF52832 Breakout    SoC microcontroller with BLE, ANT, Nordic support, and 2.4Ghz multiprotocol radio   SparkFun Products: SparkFun nRF52832 Breakout
SF_ID: WRL-13990
footprint SPARKFUN_NRF52832_BREAKOUT
pins: 00/X1, 1-NFC, 01/X2, 2-NFC, 02/A0, 3.3V 3.3V@1 3.3V, 03/A1, 04/A2, 05/A3, 08, 09, 10, 11, 12, 13, 14, 15, 16, 17, 18, 19, 20, 22, 23, 24, 25, 26/RX, 27/TX, 28/A4, 29/A5, 30/A6, 31/A7, !RST, GND GND1 GND2 GND, VCC, VIN VIN1 VIN

## SPARKFUN_PRO_MICRO
designator B?, comment SparkFun Pro Micro     Atmega32U4 compatible footprint.   SparkFun Products: 3.3V/8MHz  5V/16MHz
footprint SPARKFUN_PRO_MICRO
pins: 1 TXO, 2 RXI, 3 GND@1 (power), 4 GND (power), 5 2, 6 *3, 7 4, 8 *5, 9 *6, 10 7, 11 8, 12 *9, 13 *10, 14 11(MOSI), 15 12(MISO), 16 13(SCK), 17 A0, 18 A1, 19 A2, 20 A3, 21 VCC (power), 22 RESET, 23 GND@2 (power), 24 RAW (power)

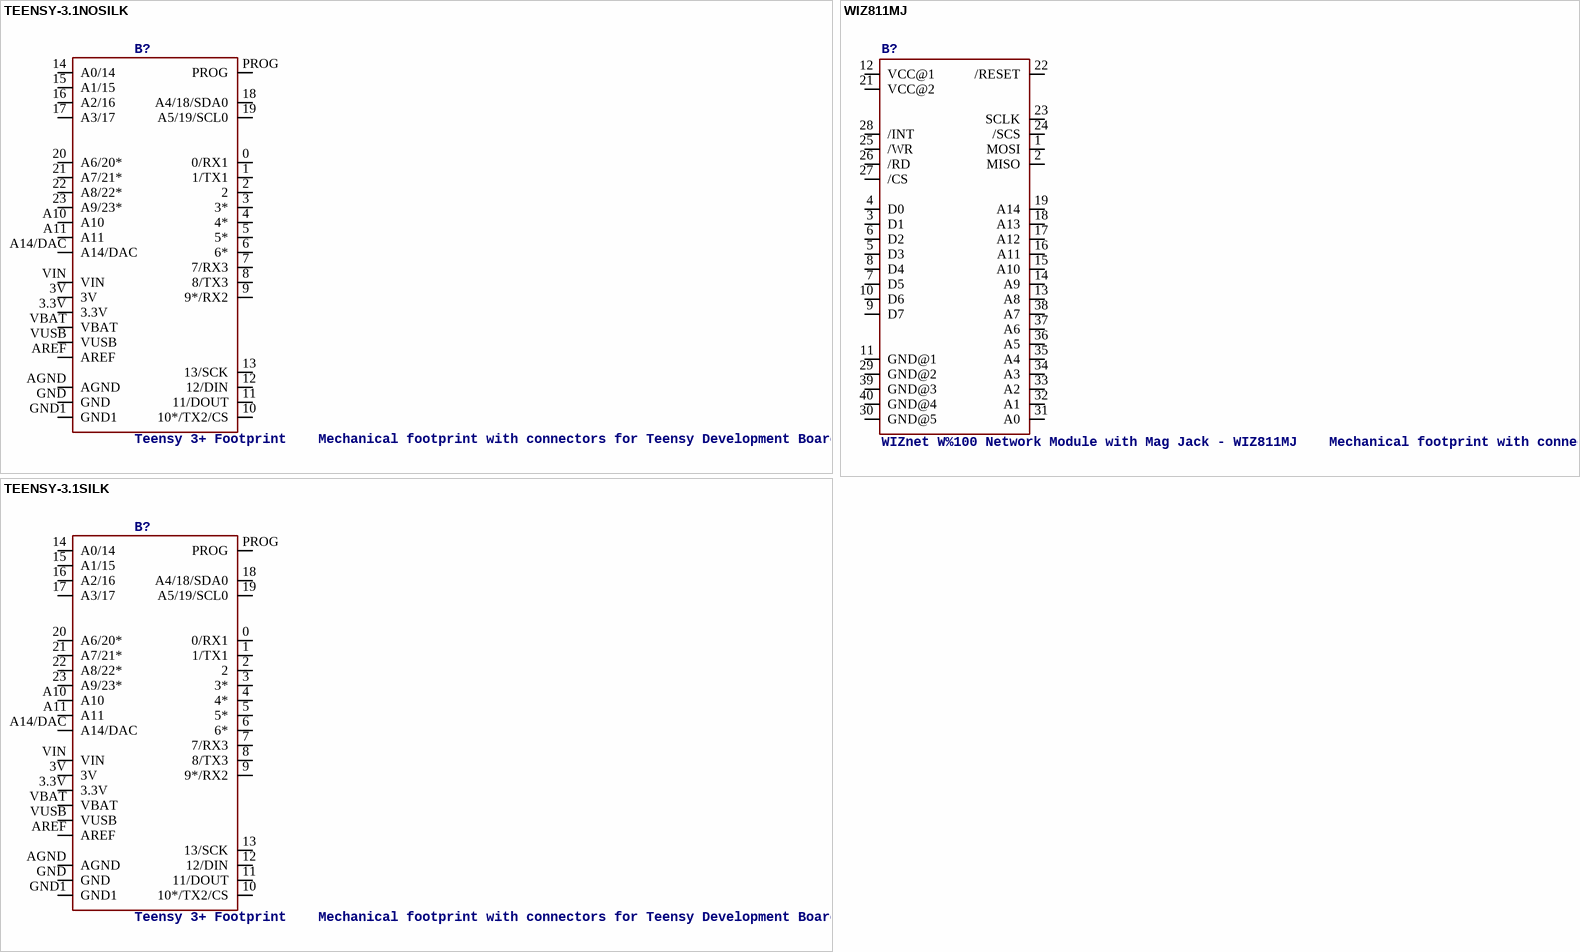
[diagram p6: symbols TEENSY-3.1NOSILK to WIZ811MJ]

## TEENSY-3.1NOSILK
designator B?, comment Teensy 3+ Footprint    Mechanical footprint with connectors for Teensy Development Board with ARM Cortex.   SparkFun Products:
SF_ID: DEV-12646
footprint TEENSY-3.1_NOSILK
pins: 0 0/RX1, 1 1/TX1, 2, 3 3*, 3.3V (power), 3V (power), 4 4*, 5 5*, 6 6*, 7 7/RX3, 8 8/TX3, 9 9*/RX2, 10 10*/TX2/CS, 11 11/DOUT, 12 12/DIN, 13 13/SCK, 14 A0/14, 15 A1/15, 16 A2/16, 17 A3/17, 18 A4/18/SDA0, 19 A5/19/SCL0, 20 A6/20*, 21 A7/21*, 22 A8/22*, 23 A9/23*, A10, A11, A14/DAC, AGND (power), AREF, GND (power), GND1 (power), PROG, VBAT (power), VIN (power), VUSB (power)

## TEENSY-3.1SILK
designator B?, comment Teensy 3+ Footprint    Mechanical footprint with connectors for Teensy Development Board with ARM Cortex.   SparkFun Products:
SF_ID: DEV-12646
footprint TEENSY-3.1
pins: 0 0/RX1, 1 1/TX1, 2, 3 3*, 3.3V (power), 3V (power), 4 4*, 5 5*, 6 6*, 7 7/RX3, 8 8/TX3, 9 9*/RX2, 10 10*/TX2/CS, 11 11/DOUT, 12 12/DIN, 13 13/SCK, 14 A0/14, 15 A1/15, 16 A2/16, 17 A3/17, 18 A4/18/SDA0, 19 A5/19/SCL0, 20 A6/20*, 21 A7/21*, 22 A8/22*, 23 A9/23*, A10, A11, A14/DAC, AGND (power), AREF, GND (power), GND1 (power), PROG, VBAT (power), VIN (power), VUSB (power)

## WIZ811MJ
designator B?, comment WIZnet W%100 Network Module with Mag Jack - WIZ811MJ    Mechanical footprint with connectors for WIZ811MJ Breakout board with RJ45 connector.   SparkFun Products:
footprint WIZ811MJ
pins: 1 MOSI, 2 MISO, 3 D1, 4 D0, 5 D3, 6 D2, 7 D5, 8 D4, 9 D7, 10 D6, 11 GND@1, 12 VCC@1, 13 A8, 14 A9, 15 A10, 16 A11, 17 A12, 18 A13, 19 A14, 21 VCC@2, 22 /RESET, 23 SCLK, 24 /SCS, 25 /WR, 26 /RD, 27 /CS, 28 /INT, 29 GND@2, 30 GND@5, 31 A0, 32 A1, 33 A2, 34 A3, 35 A4, 36 A5, 37 A6, 38 A7, 39 GND@3, 40 GND@4